# EAGLE library part USB_B_90° (library Traficon)
CNUSB04F3 Drawn by CT on 28/07/10
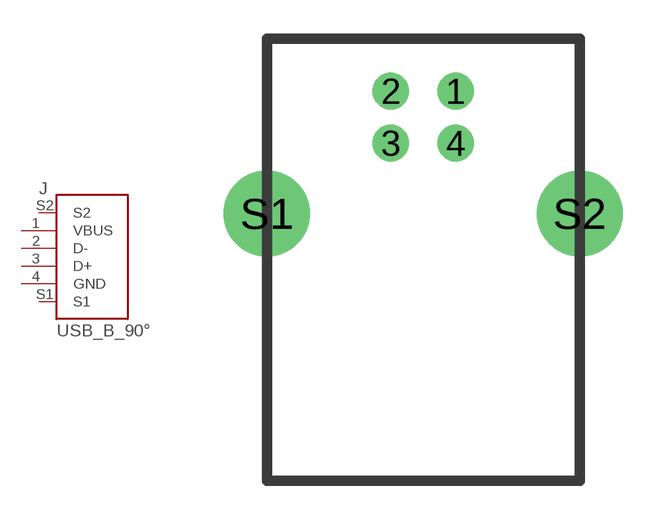
[diagram p260: symbol with the pads of USB_B_90°; footprint USB_B_90°]

Designator prefix J

## USB_B_90°  [USB_B_90°]
1  VBUS  pas
2  D-  pas
3  D+  pas
4  GND  pas
S1  S1  pas
S2  S2  pas

## Footprint USB_B_90° (pad centres in mm)
CNUSB04F3 CT: 10/08/10: Made package longer at the backside.
drill 0.9 round: 1 1.25,4.71; 2 -1.25,4.71; 3 -1.25,2.71; 4 1.25,2.71
drill 2.3 round: S1 -6.02,0; S2 6.02,0